# Altium footprint library diode_footp.PcbLib: 28 footprints (part 1 of 2)
Each footprint in its own frame and in the unit in brackets; x right, y up, seen from the top. Pads: shape width x height; smd on the part's side, far side on the other; paste and mask are expansions set on the pad; w line width, h text height; cw(c..) or ccw(c..) is an arc to the next point about the centre after c.
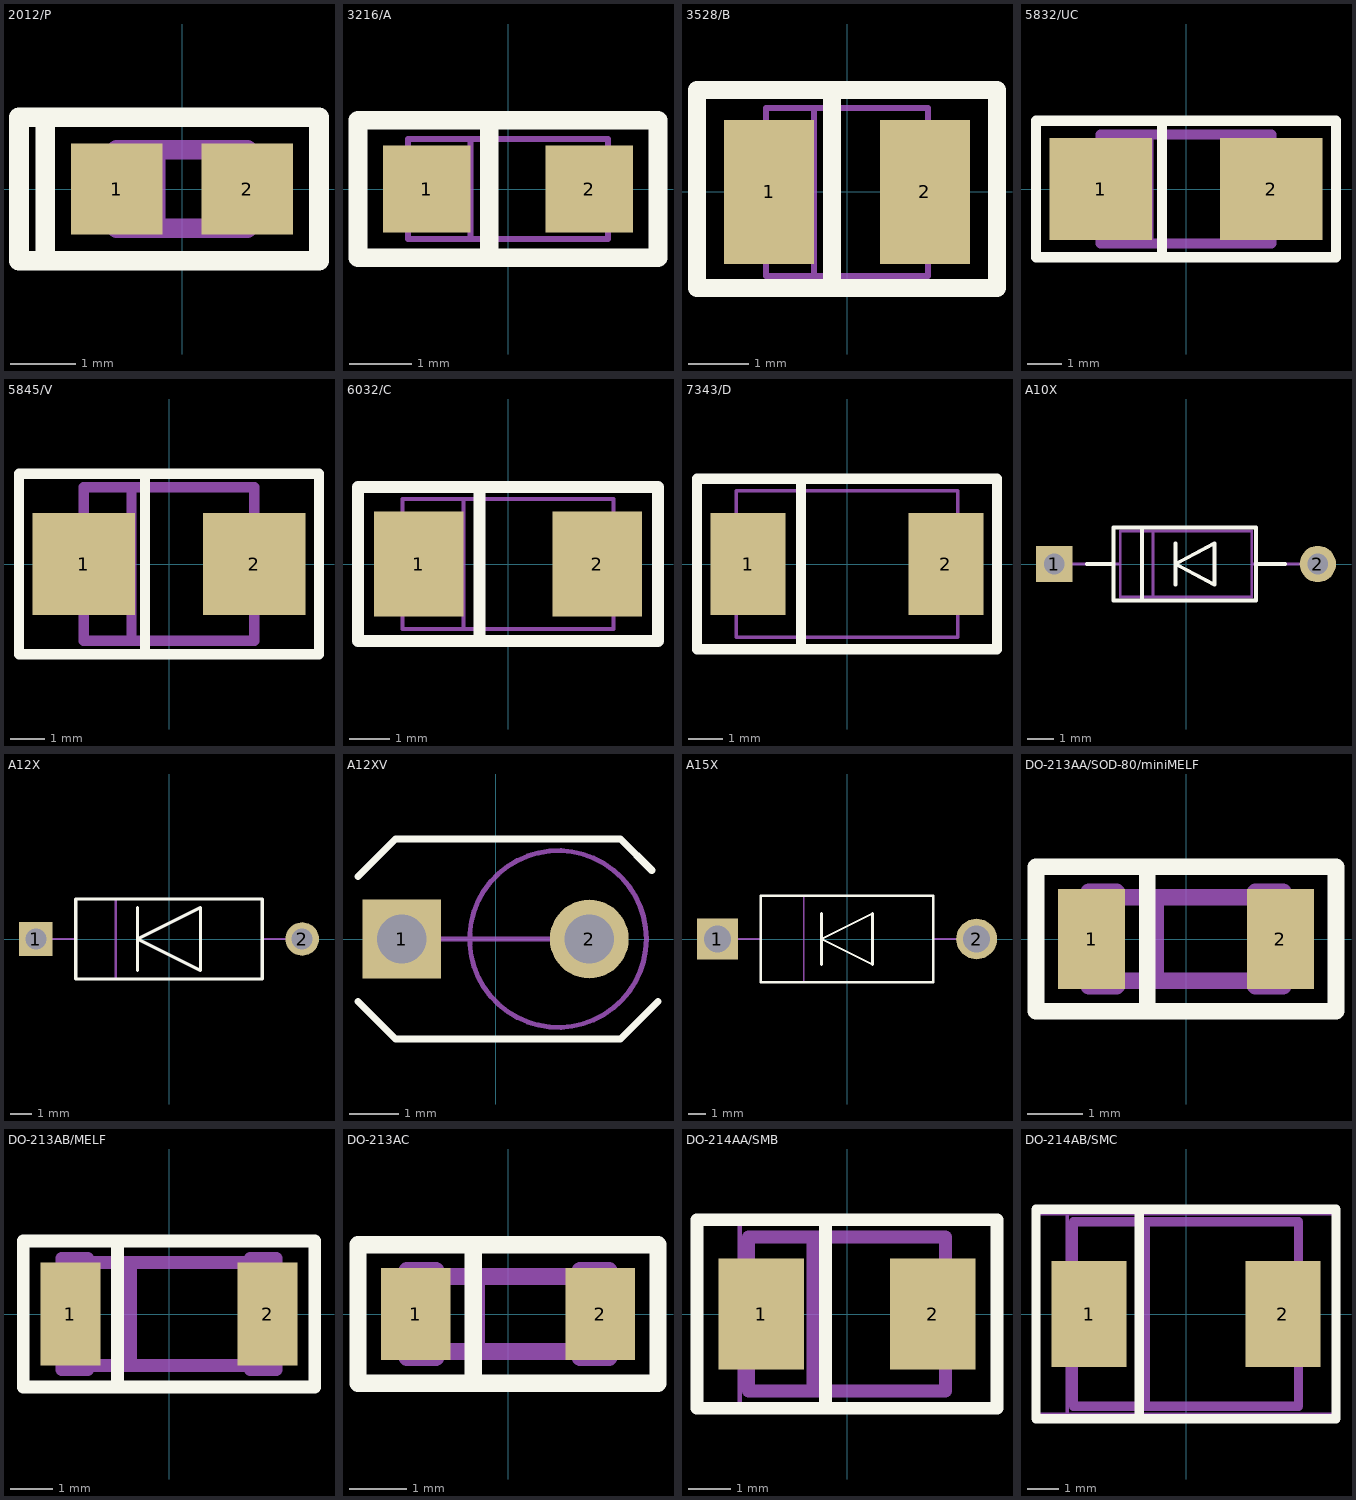
[diagram p0: the footprints below, top view; thin cyan lines are the x and y axes]

## 2012/P [mm]
pads (2):
  rect 1.4x1.4 smd: 1(-1,0) 2(1,0)
Top Overlay:
  lines w0.3: -2.1,-1.1 -2.1,1.1 ; -2.5,-1.1 -2.5,1.1 2.1,1.1 2.1,-1.1 -2.5,-1.1
Mechanical 1:
  lines w0.3: -0.4,-0.6 -0.4,0.6 ; -1,-0.6 1,-0.6 1,0.6 -1,0.6 -1,-0.6

## 3216/A [mm]
height 1.8
pads (2):
  rect 1.4x1.4 smd: 1(-1.3,0) 2(1.3,0)
Top Overlay:
  lines w0.3: -0.3,-1.1 -0.3,1.1 ; -2.4,-1.1 -2.4,1.1 2.4,1.1 2.4,-1.1 -2.4,-1.1
Mechanical 1:
  lines w0.1: -0.6,-0.8 -0.6,0.8 ; -1.6,-0.8 1.6,-0.8 1.6,0.8 -1.6,0.8 -1.6,-0.8
3D body: height 1.6, standoff 0.1, extent -1.6,-0.8 -0.7,0.8
3D body: height 0.9, standoff 0, extent 0.6,-0.7 1.7,0.7
3D body: height 1.6, standoff 0.1, extent -0.7,-0.8 1.6,0.8
3D body: height 0.9, standoff 0, extent -1.7,-0.7 -0.6,0.7

## 3528/B [mm]
height 2.1
pads (2):
  rect 1.5x2.4 smd: 1(-1.3,0) 2(1.3,0)
Top Overlay:
  lines w0.3: -0.25,-1.6 -0.25,1.7 ; -2.5,-1.6 2.5,-1.6 2.5,1.7 -2.5,1.7 -2.5,-1.6
Mechanical 1:
  lines w0.1: -1.35,-1.1 -1.75,-1.1 -1.75,1.1 -1.35,1.1 ; -0.55,-1.4 -0.55,1.4 ; 1.35,-1.1 1.75,-1.1 1.75,1.1 1.35,1.1 ; -1.35,-1.4 1.35,-1.4 1.35,1.4 -1.35,1.4 -1.35,-1.4
3D body: height 1.9, standoff 0.1, extent -0.6,-1.4 1.4,1.4
3D body: height 1, standoff 0, extent 0.6,-1.1 1.8,1.1
3D body: height 1, standoff 0, extent -1.8,-1.1 -0.6,1.1
3D body: height 1.9, standoff 0.1, extent -1.4,-1.4 -0.6,1.4

## 5832/UC [mm]
pads (2):
  rect 3x3 smd: 1(-2.5,0) 2(2.5,0)
Top Overlay:
  lines w0.3: -0.7,-2 -0.7,2 ; -4.4,-2 -4.4,2 4.4,2 4.4,-2 -4.4,-2
Mechanical 1:
  lines w0.3: -2.5,-1.1 -2.9,-1.1 -2.9,1.1 -2.5,1.1 ; -1.1,-1.6 -1.1,1.6 ; 2.5,-1.1 2.9,-1.1 2.9,1.1 2.5,1.1 ; -2.5,-1.6 -2.5,1.6 2.5,1.6 2.5,-1.6 -2.5,-1.6

## 5845/V [mm]
pads (2):
  rect 3x3 smd: 1(-2.5,0) 2(2.5,0)
Top Overlay:
  lines w0.3: -0.7,-2.65 -0.7,2.65 ; -4.4,-2.65 -4.4,2.65 4.4,2.65 4.4,-2.65 -4.4,-2.65
Mechanical 1:
  lines w0.3: -2.5,-1.1 -2.9,-1.1 -2.9,1.1 -2.5,1.1 ; -1.1,-2.25 -1.1,2.25 ; 2.5,-1.1 2.9,-1.1 2.9,1.1 2.5,1.1 ; -2.5,-2.25 2.5,-2.25 2.5,2.25 -2.5,2.25 -2.5,-2.25

## 6032/C [mm]
height 2.8
pads (2):
  rect 2.2x2.6 smd: 1(-2.2,0) 2(2.2,0)
Top Overlay:
  lines w0.3: -0.7,-1.9 -0.7,1.9 ; -3.7,-1.9 -3.7,1.9 3.7,1.9 3.7,-1.9 -3.7,-1.9
Mechanical 1:
  lines w0.1: -2.6,-1.1 -3,-1.1 -3,1.1 -2.6,1.1 ; -1.1,-1.6 -1.1,1.6 ; 2.6,-1.1 3,-1.1 3,1.1 2.6,1.1 ; -2.6,-1.6 2.6,-1.6 2.6,1.6 -2.6,1.6 -2.6,-1.6
3D body: height 2.5, standoff 0.2, extent -1.3,-1.6 2.6,1.6
3D body: height 1.2, standoff 0, extent 1.5,-1.1 3,1.1
3D body: height 1.2, standoff 0, extent -3,-1.1 -1.5,1.1
3D body: height 2.5, standoff 0.1, extent -2.6,-1.6 -1.3,1.6

## 7343/D [mm]
height 3.1
pads (2):
  rect 2.2x3 smd: 1(-2.9,0) 2(2.9,0)
Top Overlay:
  lines w0.3: -1.35,-2.5 -1.35,2.5 ; -4.4,-2.5 -4.4,2.5 4.4,2.5 4.4,-2.5 -4.4,-2.5
Mechanical 1:
  lines w0.1: -3.25,-1.2 -3.65,-1.2 -3.65,1.2 -3.25,1.2 ; -1.35,-2.15 -1.35,2.15 ; 3.25,-1.2 3.65,-1.2 3.65,1.2 3.25,1.2 ; -3.25,-2.15 3.25,-2.15 3.25,2.15 -3.25,2.15 -3.25,-2.15
3D body: height 2.8, standoff 0.1, extent -3.3,-2.2 -1.7,2.2
3D body: height 1.4, standoff 0, extent -3.7,-1.2 -2,1.2
3D body: height 2.8, standoff 0.2, extent -1.7,-2.2 3.3,2.2
3D body: height 1.4, standoff 0, extent 2,-1.2 3.7,1.2

## A10X [mm]
height 2
pads (2):
  rect 1.4x1.4 hole 0.8: 1(-5.08,0)
  round 1.4 hole 0.8: 2(5.08,0)
Top Overlay:
  lines w0.15: -3.81,0 -2.8,0 ; -1.7,-1.4 -1.7,1.4 ; -0.4,-0.8 -0.4,0.8 ; 2.7,0 3.81,0 ; -2.8,-1.4 2.7,-1.4 2.7,1.4 -2.8,1.4 -2.8,-1.4 ; -0.4,0 1.1,0.8 1.1,-0.8 -0.4,0
Mechanical 1:
  lines w0.1: -5.08,0 -2.54,0 ; -1.27,-1.27 -1.27,1.27 ; 2.54,0 5.08,0 ; -2.54,-1.27 2.54,-1.27 2.54,1.27 -2.54,1.27 -2.54,-1.27
3D body: height 2.55, standoff 0.05, extent -1.7,-1.25 -1.2,1.25
3D body: height 2.5, standoff 0.1, extent -2.4,-1.2 2.4,1.199

## A12X [mm]
height 2
pads (2):
  rect 1.6x1.6 hole 1: 1(-6.35,0)
  round 1.6 hole 1: 2(6.35,0)
Top Overlay:
  lines w0.15: -1.5,-1.5 -1.5,1.5 ; -4.445,-1.905 4.445,-1.905 4.445,1.905 -4.445,1.905 -4.445,-1.905 ; -1.5,0 1.5,-1.5 1.5,1.5 -1.5,0
Mechanical 1:
  lines w0.1: -6.35,0 -4.445,0 ; -2.54,-1.905 -2.54,1.905 ; 4.445,0 6.35,0 ; -4.445,-1.905 4.445,-1.905 4.445,1.905 -4.445,1.905 -4.445,-1.905
3D body: height 3.8, standoff 0.2, extent -4.5,-1.8 -2.5,1.8
3D body: height 3.8, standoff 0.2, extent -2.5,-1.8 4.5,1.793

## A12XV [mm]
height 12
pads (2):
  rect 1.6x1.6 hole 1: 1(-1.905,0)
  round 1.6 hole 1: 2(1.905,0)
Top Overlay:
  lines w0.15: -2.794,-1.27 -2.032,-2.032 2.54,-2.032 3.302,-1.27 ; -2.794,1.27 -2.032,2.032 2.54,2.032 3.175,1.397
Mechanical 1:
  circle w0.1: c1.27,0 r1.796
  lines w0.1: -2.032,0 1.27,0
3D body: height 10, standoff 7.58, extent -1.647,-1.8 2.168,1.8
3D body: height 8.17, standoff 0.78, extent -1.37,-1.796 3.057,1.796

## A15X [mm]
height 5.5
pads (2):
  rect 2.4x2.4 hole 1.6: 1(-7.62,0)
  round 2.4 hole 1.6: 2(7.62,0)
Top Overlay:
  lines w0.15: -1.5,-1.5 -1.5,1.5 ; -5.08,-2.54 5.08,-2.54 5.08,2.54 -5.08,2.54 -5.08,-2.54 ; -1.5,0 1.5,1.5 1.5,-1.5 -1.5,0
Mechanical 1:
  lines w0.1: -7.62,0 -5.08,0 ; -2.54,-2.54 -2.54,2.54 ; 5.08,0 7.62,0 ; -5.08,-2.54 5.08,-2.54 5.08,2.54 -5.08,2.54 -5.08,-2.54
3D body: height 5.2, standoff 0.2, extent -5.1,-2.499 -2.5,2.499
3D body: height 5.2, standoff 0.2, extent -2.5,-2.5 5.1,2.5

## DO-213AA/SOD-80/miniMELF [mm]
pads (2):
  rect 1.2x1.8 smd: 1(-1.7,0) 2(1.7,0)
Top Overlay:
  lines w0.3: -0.7,-1.3 -0.7,1.3 ; -2.7,-1.3 2.7,-1.3 2.7,1.3 -2.7,1.3 -2.7,-1.3
Mechanical 1:
  lines w0.3: -1.25,-0.75 1.25,-0.75 ; -1.25,0.75 1.25,0.75 ; -0.55,-0.75 -0.55,0.75 ; -1.75,-0.85 -1.25,-0.85 -1.25,0.85 -1.75,0.85 -1.75,-0.85 ; 1.25,-0.85 1.75,-0.85 1.75,0.85 1.25,0.85 1.25,-0.85
3D body: height 1.8, standoff 0, extent 1.5,-0.9 1.9,0.9
3D body: height 1.8, standoff 0, extent -1.9,-0.9 -1.5,0.9
3D body: height 1.7, standoff 0.1, extent -1.8,-0.798 1.8,0.798
3D body: height 1.75, standoff 0.05, extent -1,-0.85 -0.6,0.85

## DO-213AB/MELF [mm]
pads (2):
  rect 1.4x2.4 smd: 1(-2.3,0) 2(2.3,0)
Top Overlay:
  lines w0.3: -1.2,-1.7 -1.2,1.7 ; -3.4,-1.7 -3.4,1.7 3.4,1.7 3.4,-1.7 -3.4,-1.7
Mechanical 1:
  lines w0.3: -1.9,-1.2 1.9,-1.2 ; -1.9,1.2 1.9,1.2 ; -0.9,-1.2 -0.9,1.2 ; -2.5,-1.3 -2.5,1.3 -1.9,1.3 -1.9,-1.3 -2.5,-1.3 ; 1.9,-1.3 1.9,1.3 2.5,1.3 2.5,-1.3 1.9,-1.3
3D body: height 2.6, standoff 0, extent -2.5,-1.3 -2,1.3
3D body: height 2.6, standoff 0, extent 2,-1.3 2.5,1.3
3D body: height 2.55, standoff 0.05, extent -1.5,-1.25 -1,1.25
3D body: height 2.5, standoff 0.1, extent -2.4,-1.2 2.4,1.199

## DO-213AC [mm]
pads (2):
  rect 1.2x1.6 smd: 1(-1.6,0) 2(1.6,0)
Top Overlay:
  lines w0.3: -0.6,-1.2 -0.6,1.2 ; -2.6,-1.2 -2.6,1.2 2.6,1.2 2.6,-1.2 -2.6,-1.2
Mechanical 1:
  lines w0.3: -1.25,-0.65 1.25,-0.65 ; -1.25,0.65 1.25,0.65 ; -0.55,-0.65 -0.55,0.65 ; -1.75,-0.75 -1.25,-0.75 -1.25,0.75 -1.75,0.75 -1.75,-0.75 ; 1.25,-0.75 1.75,-0.75 1.75,0.75 1.25,0.75 1.25,-0.75

## DO-214AA/SMB [mm]
height 2.4
pads (2):
  rect 2x2.6 smd: 1(-2,0) 2(2,0)
Top Overlay:
  lines w0.3: -0.5,-2.2 -0.5,2.2 ; -3.5,-2.2 -3.5,2.2 3.5,2.2 3.5,-2.2 -3.5,-2.2
Mechanical 1:
  lines w0.05: -2.3,-1 -2.7,-1 -2.7,1 -2.3,1 ; 2.3,-1 2.7,-1 2.7,1 2.3,1 ; -2.3,-1.8 -2.3,1.8 2.3,1.8 2.3,-1.8 -2.3,-1.8
  lines w0.3: -2.3,-1 -2.7,-1 -2.7,1 -2.3,1 ; -0.8,-1.8 -0.8,1.8 ; 2.3,-1 2.7,-1 2.7,1 2.3,1 ; -2.3,-1.8 -2.3,1.8 2.3,1.8 2.3,-1.8 -2.3,-1.8
Mechanical 5:
  lines w0.1: -2.5,-2.1 -2.5,2.1 ; -3.5,-2.1 3.5,-2.1 3.5,2.1 -3.5,2.1 -3.5,-2.1
  text ".Designator" at -1.8,-0.8 h1.5
Mechanical 6:
  lines w0.1: -2.5,-2.1 -2.5,2.1 ; -3.5,-2.1 -3.5,2.1 3.5,2.1 3.5,-2.1 -3.5,-2.1
  text ".Comment" at -1.8,-0.8 h1.5
3D body: height 1.4, standoff 0, extent 1.5,-1 2.7,1
3D body: height 1.4, standoff 0, extent -2.7,-1 -1.5,1
3D body: height 2.4, standoff 0.1, extent -0.9,-1.8 2.3,1.8
3D body: height 2.4, standoff 0.1, extent -2.3,-1.8 -0.9,1.8

## DO-214AB/SMC [mm]
height 2.6
pads (2):
  rect 2.4x3.4 smd: 1(-3.1,0) 2(3.1,0)
Top Overlay:
  lines w0.3: -1.5,-3.35 -1.5,3.35 ; -4.8,-3.35 -4.8,3.35 4.8,3.35 4.8,-3.35 -4.8,-3.35
Mechanical 1:
  lines w0.3: -3.6,-1.5 -4,-1.5 -4,1.5 -3.6,1.5 ; -1.3,-2.95 -1.3,2.95 ; 3.6,-1.5 4,-1.5 4,1.5 3.6,1.5 ; -3.6,-2.95 -3.6,2.95 3.6,2.95 3.6,-2.95 -3.6,-2.95
Mechanical 5:
  lines w0.1: -3.8,-3.2 -3.8,3.2 ; -4.8,-3.2 -4.8,3.2 4.8,3.2 4.8,-3.2 -4.8,-3.2
  text ".Designator" at -1.8,-0.8 h1.5
Mechanical 6:
  lines w0.1: -3.8,-3.2 -3.8,3.2 ; -4.8,-3.2 4.8,-3.2 4.8,3.2 -4.8,3.2 -4.8,-3.2
  text ".Comment" at -1.8,-0.8 h1.5
3D body: height 2.6, standoff 0.1, extent -1.9,-2.9 3.6,2.9
3D body: height 1.4, standoff 0, extent -3.95,-1.5 -1.9,1.5
3D body: height 1.4, standoff 0, extent 1.9,-1.5 3.925,1.5
3D body: height 2.6, standoff 0.1, extent -3.6,-2.9 -1.9,2.9